# Altium schematic symbol library E17-12_CC.SCHLIB: 14 symbols
Pins are listed as number, name and electrical type; pins without a type are passive.

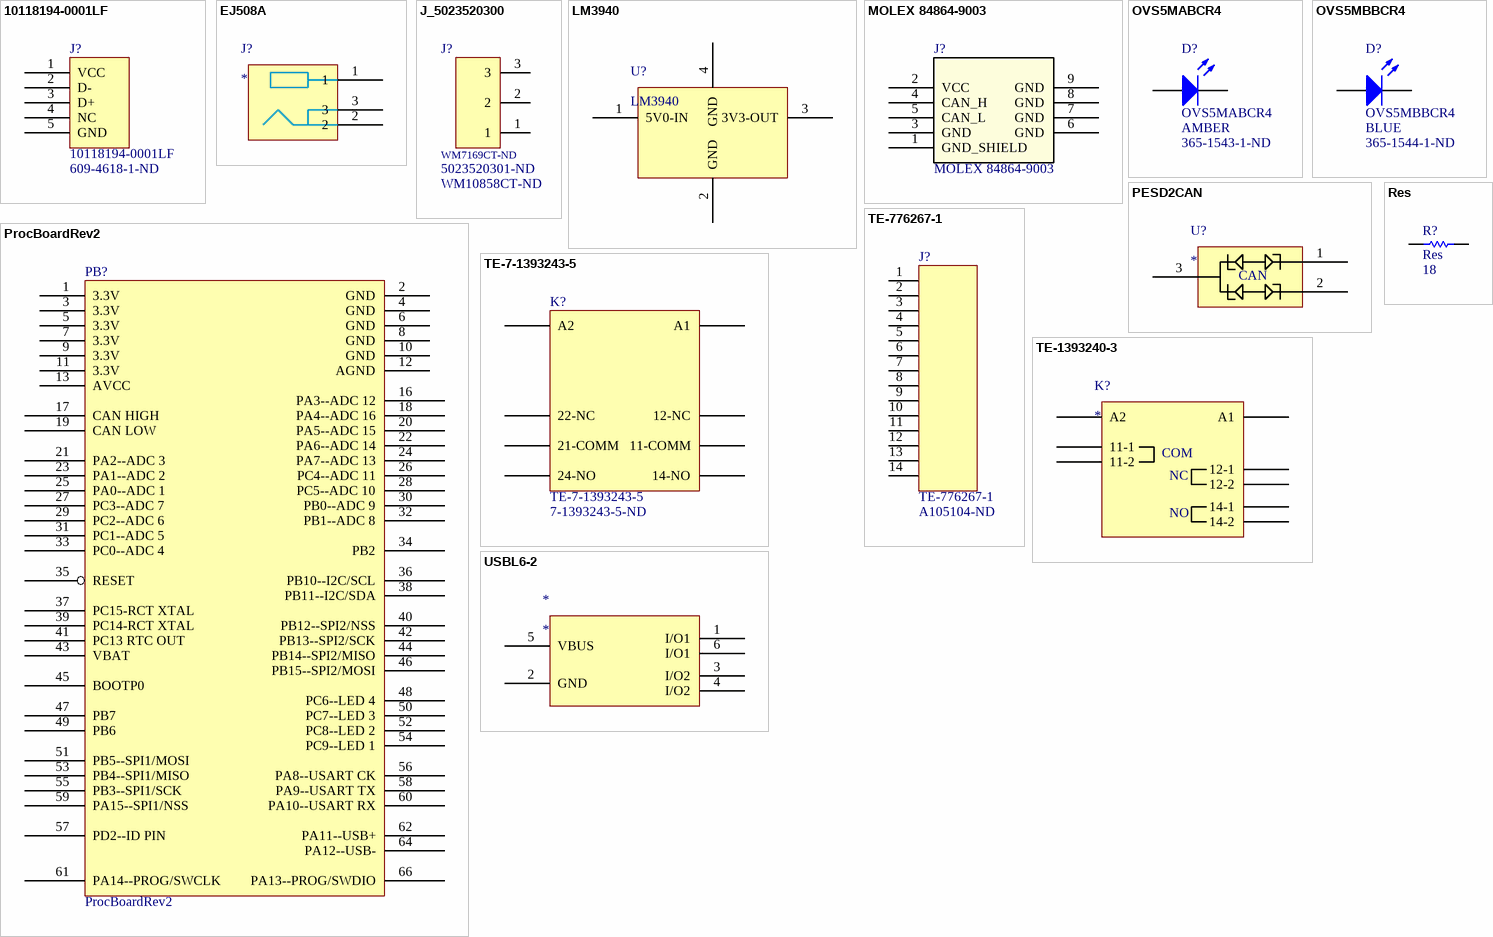
[diagram p0: symbols 10118194-0001LF to USBL6-2]

## 10118194-0001LF
designator J?  Supplier Part Number 1: 609-4618-1-ND
CONN USB MICRO B RECPT SMT R/A; Supplier 1: Digi-Key
footprint 10118194-0001LF (CONN USB MICRO B RECPT SMT R/A)
footprint 10118194-0001LF (CONN USB MICRO B RECPT SMT R/A)
pins: 1 VCC, 2 D-, 3 D+, 4 NC, 5 GND

## EJ508A
designator J?
CONN PWR JACK 2.1X5.5MM SOLDER
footprint EJ805A (CONN PWR JACK 2.1X5.5MM SOLDER)
pins: 1 (power), 2 (power), 3

## J_5023520300
designator J?  Supplier Part Number 1: 5023520301-ND  Supplier Part Number 2: WM10858CT-ND  (hidden comment: J_5023520300)
MOLEX DURACLIK 3-PIN RA; DIGIKEY_PN: WM10858CT-ND; Supplier 1: Digi-Key; Supplier 2: Digi-Key
footprint MOLEX_DURACLIK_2 HV
pins: 1, 2, 3
text: WM7169CT-ND

## LM3940
designator U?
pins: 1 5V0-IN, 2 GND, 3 3V3-OUT, 4 GND

## MOLEX 84864-9003
designator J?
CAN Micro-Change M12, Right Angle, Male
footprint MOLEX 84864-9003
pins: 1 GND_SHIELD, 2 VCC, 3 GND, 4 CAN_H, 5 CAN_L, 6 GND, 7 GND, 8 GND, 9 GND

## OVS5MABCR4
designator D?  Colour: AMBER  Supplier Part Number 1: 365-1543-1-ND
Typical AMBER LED; Published: 8-Jun-2000; LatestRevisionDate: 17-Jul-2002; LatestRevisionNote: Re-released for DXP Platform.; PackageDocument: Feb-2002; PackageReference: 3.2X1.6X1.1; Publisher: Altium Limited; Supplier 1: Digi-Key
footprint OVS5MABCR4 (SMT LED; 2 Flat Leads; AMBER)
pins: 1 A, 2 K

## OVS5MBBCR4
designator D?  Colour: BLUE  Supplier Part Number 1: 365-1544-1-ND
Typical BLUE LED; Published: 8-Jun-2000; LatestRevisionDate: 17-Jul-2002; LatestRevisionNote: Re-released for DXP Platform.; PackageDocument: Feb-2002; PackageReference: 3.2X1.6X1.1; Publisher: Altium Limited; Supplier 1: Digi-Key
footprint OVS5MBBCR4 (SMT LED; 2 Flat Leads; BLUE)
pins: 1 A, 2 K

## PESD2CAN
designator U?
footprint SOT95P230X110-3N (SOT23, 3-Leads, Body 2.90x2.30mm, Pitch 0.95mm, IPC Medium Density)
pins: 1 CATH1, 2 CATH2, 3 COM
text: CAN

## ProcBoardRev2
designator PB?
Processor board that carries the STM32F072RB
footprint PROC_BOARD
pins: 1 3.3V (power), 2 GND (power), 3 3.3V (power), 4 GND (power), 5 3.3V (power), 6 GND (power), 7 3.3V (power), 8 GND (power), 9 3.3V (power), 10 GND (power), 11 3.3V (power), 12 AGND (power), 13 AVCC (power), 14 NC hidden, 15 NC hidden, 16 PA3--ADC 12, 17 CAN HIGH, 18 PA4--ADC 16, 19 CAN LOW, 20 PA5--ADC 15, 21 PA2--ADC 3, 22 PA6--ADC 14, 23 PA1--ADC 2, 24 PA7--ADC 13, 25 PA0--ADC 1, 26 PC4--ADC 11, 27 PC3--ADC 7, 28 PC5--ADC 10, 29 PC2--ADC 6, 30 PB0--ADC 9, 31 PC1--ADC 5, 32 PB1--ADC 8, 33 PC0--ADC 4, 34 PB2, 35 RESET, 36 PB10--I2C/SCL, 37 PC15-RCT XTAL, 38 PB11--I2C/SDA, 39 PC14-RCT XTAL, 40 PB12--SPI2/NSS, 41 PC13 RTC OUT, 42 PB13--SPI2/SCK, 43 VBAT (power), 44 PB14--SPI2/MISO, 45 BOOTP0, 46 PB15--SPI2/MOSI, 47 PB7, 48 PC6--LED 4, 49 PB6, 50 PC7--LED 3, 51 PB5--SPI1/MOSI, 52 PC8--LED 2, 53 PB4--SPI1/MISO, 54 PC9--LED 1, 55 PB3--SPI1/SCK, 56 PA8--USART CK, 57 PD2--ID PIN, 58 PA9--USART TX, 59 PA15--SPI1/NSS, 60 PA10--USART RX, 61 PA14--PROG/SWCLK, 62 PA11--USB+, 63 NC hidden, 64 PA12--USB-, 65 NC hidden, 66 PA13--PROG/SWDIO, 67 hidden

## Res
designator R?  value 18
Surface Mount Resistor; Published: 8-Jun-2000; LatestRevisionDate: 17-Jul-2002; LatestRevisionNote: Re-released for DXP Platform.; PackageReference: AXIAL-0.5; Publisher: Altium Limited
footprint 3216[1206] (Chip Resistor; Body 3.2 x 1.6 mm (LxW typ))
footprint 2012[0805] (Chip Resistor; Body 2.0 x 1.3 mm (LxW typ))
pins: 1, 2

## TE-7-1393243-5
designator K?  Supplier Part Number 1: 7-1393243-5-ND
RELAY GEN PURPOSE DPDT 8A 110V; Supplier 1: Digi-Key
footprint TE-7-1393243-5 (RELAY GEN PURPOSE DPDT 8A 110V)
pins: 1 A2, 2 22-NC, 3 21-COMM, 4 24-NO, 5 14-NO, 6 11-COMM, 7 12-NC, 8 A1

## TE-776267-1
designator J?  Supplier Part Number 1: A105104-ND
CONN HEADER 14POS R/A TIN BLK; Supplier 1: Digi-Key
footprint TE-776267-1 (CONN HEADER 14POS R/A TIN BLK)
pins: 1, 2, 3, 4, 5, 6, 7, 8, 9, 10, 11, 12, 13, 14

## TE-1393240-3
designator K?
RELAY GEN PURPOSE SPDT 16A 110V
footprint TE-7-1393243-5 (RELAY GEN PURPOSE DPDT 8A 110V)
pins: 1 A2, 2 12-1, 3 11-1, 4 14-1, 5 14-2, 6 11-2, 7 12-2, 8 A1
text: COM; NC; NO

## USBL6-2
designator *
footprint SOP6
pins: 1 I/O1, 2 GND (power), 3 I/O2, 4 I/O2, 5 VBUS (power), 6 I/O1